# Altium footprint library B04B-PASK-1.PcbLib: 1 footprints
Each footprint in its own frame and in the unit in brackets; x right, y up, seen from the top. Pads: shape width x height; smd on the part's side, far side on the other; paste and mask are expansions set on the pad; w line width, h text height; cw(c..) or ccw(c..) is an arc to the next point about the centre after c.
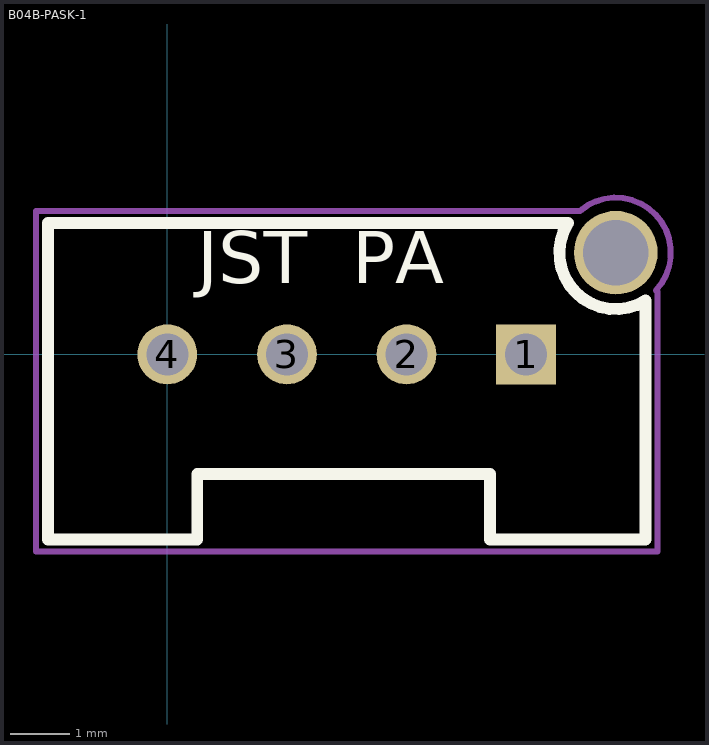
[diagram p0: the footprint, top view; thin cyan lines are the x and y axes]

## B04B-PASK-1 [mm] "JST (JAPAN SOLDERLESS TERMINALS) - B04B-PASK-1 - HEADER, PA, 4WAY, TOP, 2MM, W/BOSS"
height 9.8
pads (5):
  rect 1x1 hole 0.7: 1(6,0)
  round 1 hole 0.7: 2(4,0) 3(2,0) 4(0,0)
  round 1.4 hole 1.1: ""(7.5,1.7)
Top Overlay:
  lines w0.2: -2,-3.1 -2,2.2 6.7,2.2 ccw(c7.5,1.7) 8,0.9 8,-3.1 5.4,-3.1 5.4,-2 0.5,-2 0.5,-3.1 -2,-3.1
  text "JST  PA" at 0.5,0.9 h1.5
Mechanical 15:
  lines w0.1: 8.175,1.072 ccw(c7.5,1.7) 6.9,2.4 -2.2,2.4 -2.2,-3.3 -0.8,-3.3 6.8,-3.3 8.2,-3.3 8.2,1.048
3D body: height 7.75, standoff -2.95, extent -2,-3.1 8,2.2